# Altium schematic symbol library EPG.0B.302.HLN.SCHLIB: 1 symbol
Pins are listed as number, name and electrical type; pins without a type are passive.

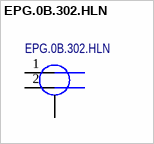
[diagram p0: symbol EPG.0B.302.HLN]

## EPG.0B.302.HLN
designator X?
LEMO Connector    2 pin EPG.0B.302.HLN Elbow receptacle for printed circuit (solder mount), Female Contact Drawing Rev. 00 Source: http://www.lemo.com/catalog/ROW/UK_English/unipole_multipole.pdf; Назначение: LEMO Connector, coax 2-pin; Потребление, Вт: 0.0; ComponentLink1Description: DataSheet; ComponentLink1URL: https://www.lemo.com/pdf/EPY.00.250.NTN.pdf; Наименование: EPG.0B.302.HLN
footprint EPG.0B.302.HLN
pins: 1 Signal 1, 2 Signal 2, 4 GND, 5 GND, 6 GND, 7 GND